# EAGLE library part MIC4429 (library linear)
LOW-SIDE MOSFET DRIVER
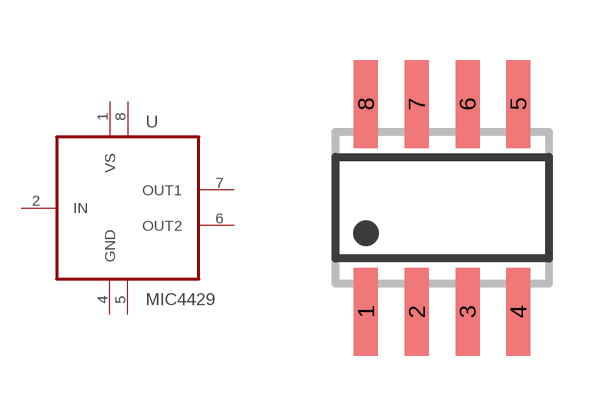
[diagram p209: symbol with the pads of SO08; footprint SO08]

Designator prefix U

## MIC4429M  [SO08]
1  VS  pwr
2  IN  in
4  GND  pwr
5  GND2  pwr
6  OUT2  out
7  OUT1  out
8  VS2  pwr

## Footprint SO08 (pad centres in mm)
SMALL OUTLINE INTEGRATED CIRCUIT body 3.9 mm/JEDEC MS-012AA
smd 0.6 x 2.2: 1 -1.905,-2.6; 2 -0.635,-2.6; 3 0.635,-2.6; 4 1.905,-2.6; 5 1.905,2.6; 6 0.635,2.6; 7 -0.635,2.6; 8 -1.905,2.6